# Altium footprint library LM2576-TO220-5.PcbLib: 1 footprints
Each footprint in its own frame and in the unit in brackets; x right, y up, seen from the top. Pads: shape width x height; smd on the part's side, far side on the other; paste and mask are expansions set on the pad; w line width, h text height; cw(c..) or ccw(c..) is an arc to the next point about the centre after c.
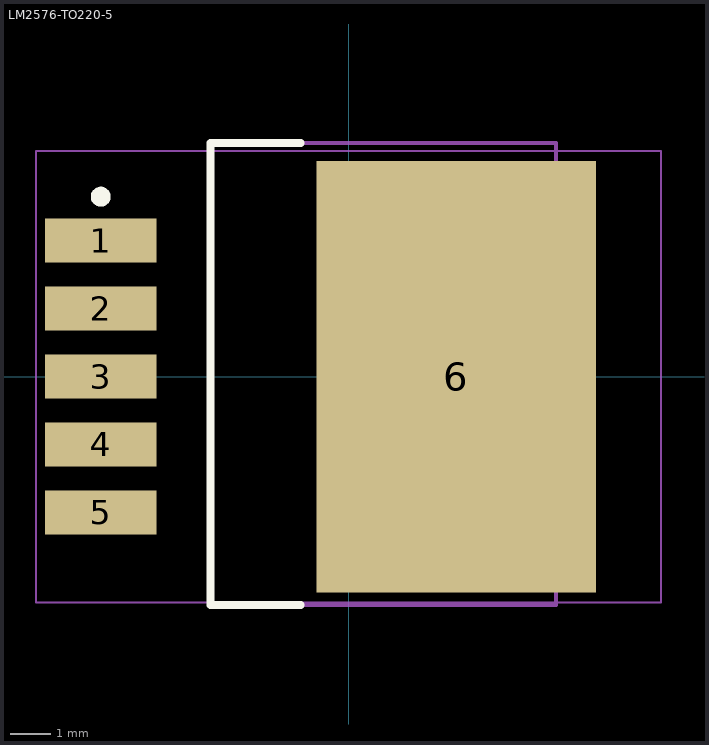
[diagram p0: the footprint, top view; thin cyan lines are the x and y axes]

## LM2576-TO220-5 [mm] "D2-PAK, 6-Pads, Body 7,42x8,51mm (max), IPC Medium Density"
height 4.57
pads (6):
  rect 2.8x1.1 smd: 1(-6.2,3.4) 2(-6.2,1.7) 3(-6.2,0) 4(-6.2,-1.7) 5(-6.2,-3.4)
  rect 6.99x10.8 smd: 6(2.7,0)
Top Overlay:
  circle w0.25: c-6.2,4.5 r0.125
  lines w0.2: -1.195,-5.715 -3.45,-5.715 -3.45,5.842 -1.195,5.842
Mechanical 13:
  lines w0.1: -3.45,-5.715 5.19,-5.715 5.19,5.842 -3.45,5.842 -3.45,-5.715
Mechanical 15:
  lines w0.05: -7.825,-5.65 7.825,-5.65 7.825,5.65 -7.825,5.65 -7.825,-5.65
  lines w0.1: -0.5,0 0.5,0 ; 0,-0.5 0,0.5